# Altium schematic symbol library Triac,800V,12A,SMD.Schlib: 1 symbol
Pins are listed as number, name and electrical type; pins without a type are passive.

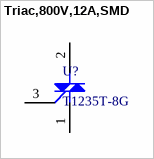
[diagram p0: symbol Triac,800V,12A,SMD]

## Triac,800V,12A,SMD
designator U?, comment T1235T-8G
TRIAC Alternistor - Snubberless 800V 12A Surface Mount D2PAK
pins: 1 A1, 2 A2, 3 G